# Altium schematic symbol library Penguin.SchLib: 36 symbols
Pins are listed as number, name and electrical type; pins without a type are passive.

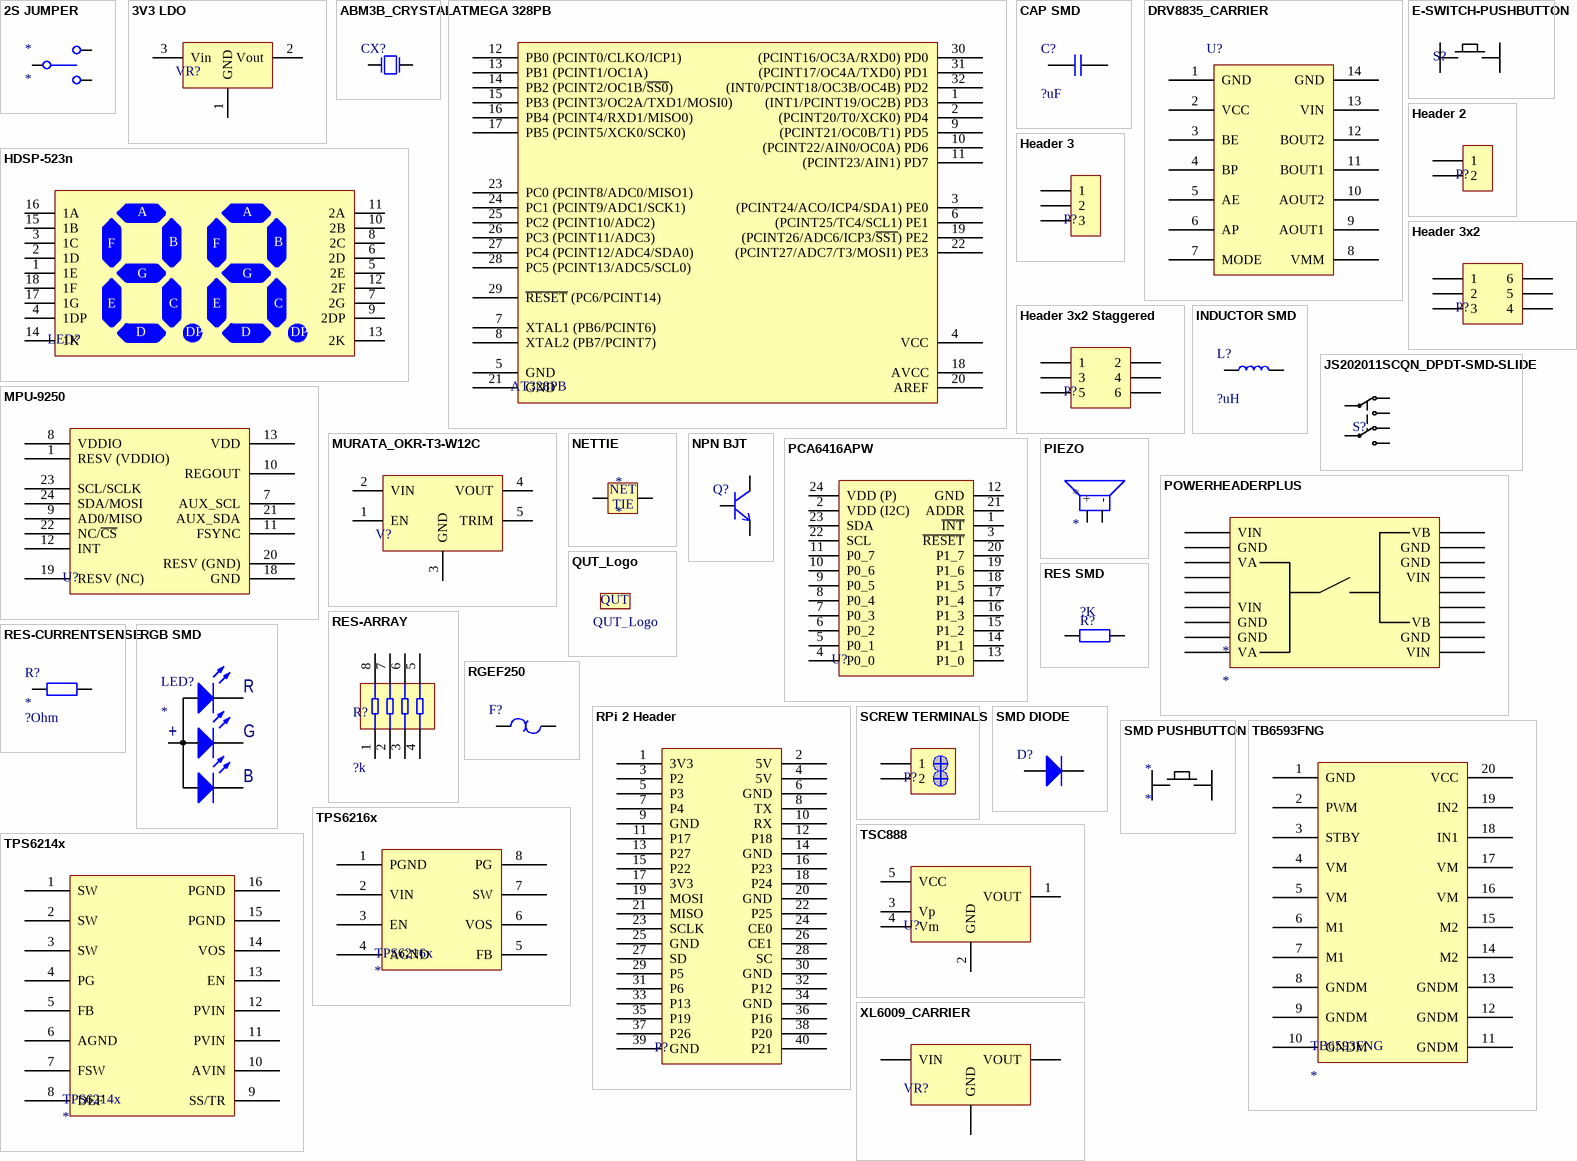
[diagram p0: symbols 2S JUMPER to XL6009_CARRIER]

## 2S JUMPER
designator *
footprint 2S JUMPER (2 State Jumper, 0.1" spacing)
pins: 0, 1, 2

## 3V3 LDO
designator VR?  (value not drawn)
3.3 V Low Dropout Regulator; Part Number: *
footprint SOT95P279X129-3N (SOT23, 3-Leads, Body 2.90x2.79mm, Pitch 0.95mm, IPC Medium Density)
footprint SOT230P700X180-4N (SOT223, 4-Leads, Body 6.50x7.00mm (avg), Pitch 2.30mm, IPC Medium Density)
pins: 1 GND, 2 Vout, 3 Vin

## ABM3B_CRYSTAL
designator CX?, comment ABM3B  (value not drawn)
Surface Mount Crystal Oscillator; Value: ?MHz
footprint ABM3B_CRYSTAL
pins: 1 0, 2 hidden to GND, 3, 4 hidden to GND

## ATMEGA 328PB
designator AT328PB  (value not drawn)
32 pin Microcontroller
footprint TQFP80P900X900X120-32N (TQFP, 32-Leads, Body 7.00x7.00mm, Pitch 0.80mm, IPC Medium Density)
pins: 1 (INT1/PCINT19/OC2B) PD3, 2 (PCINT20/T0/XCK0) PD4, 3 (PCINT24/ACO/ICP4/SDA1) PE0, 4 VCC, 5 GND, 6 (PCINT25/TC4/SCL1) PE1, 7 XTAL1 (PB6/PCINT6), 8 XTAL2 (PB7/PCINT7), 9 (PCINT21/OC0B/T1) PD5, 10 (PCINT22/AIN0/OC0A) PD6, 11 (PCINT23/AIN1) PD7, 12 PB0 (PCINT0/CLKO/ICP1), 13 PB1 (PCINT1/OC1A), 14 PB2 (PCINT2/OC1B/~{SS0}), 15 PB3 (PCINT3/OC2A/TXD1/MOSI0), 16 PB4 (PCINT4/RXD1/MISO0), 17 PB5 (PCINT5/XCK0/SCK0), 18 AVCC, 19 (PCINT26/ADC6/ICP3/~{SS1}) PE2, 20 AREF, 21 GND, 22 (PCINT27/ADC7/T3/MOSI1) PE3, 23 PC0 (PCINT8/ADC0/MISO1), 24 PC1 (PCINT9/ADC1/SCK1), 25 PC2 (PCINT10/ADC2), 26 PC3 (PCINT11/ADC3), 27 PC4 (PCINT12/ADC4/SDA0), 28 PC5 (PCINT13/ADC5/SCL0), 29 ~{RESET} (PC6/PCINT14), 30 (PCINT16/OC3A/RXD0) PD0, 31 (PCINT17/OC4A/TXD0) PD1, 32 (INT0/PCINT18/OC3B/OC4B) PD2

## CAP SMD
designator C?  value ?uF  (hidden comment: *)
Surface mount capacitor
footprint CAPC2012X07N (Chip Capacitor, 2-Leads, Body 2.00x1.25mm, IPC Medium Density)
pins: 1 A, 2 K

## DRV8835_CARRIER
designator U?  (value not drawn)
DRV8835 Motor Controller
footprint DRV8835_CARRIER
pins: 1 GND, 2 VCC, 3 BE, 4 BP, 5 AE, 6 AP, 7 MODE, 8 VMM, 9 AOUT1, 10 AOUT2, 11 BOUT1, 12 BOUT2, 13 VIN, 14 GND

## E-SWITCH-PUSHBUTTON
designator S?, comment SPST PUSHBUTTON  (value not drawn)
TL 3342 surface mount pushbutton
footprint E-SWITCH-TL3342
pins: 1 A, 2 A', 3 B', 4 B

## HDSP-523n
designator LED?, comment 7 SEGMENT LED  (value not drawn)
Double digit 7 segment LED-through hole
footprint HDSP-523n
pins: 1 1E, 2 1D, 3 1C, 4 1DP, 5 2E, 6 2D, 7 2G, 8 2C, 9 2DP, 10 2B, 11 2A, 12 2F, 13 2K, 14 1K, 15 1B, 16 1A, 17 1G, 18 1F
text: A; F; B; G; E; C; D; DP

## Header 2
designator P?
2 pin header
footprint Header 2
footprint SCREWTERMS
pins: 1, 2

## Header 3
designator P?
3 pin header
footprint Header 3
pins: 1, 2, 3

## Header 3x2
designator P?
3 by 2 pin header
footprint Header 3x2 Standard (Follows Standard pin convention)
pins: 1, 2, 3, 4, 5, 6

## Header 3x2 Staggered
designator P?
3 by 2 header, staggered pin arrangement
footprint Header 3x2 nonstandard (nonstandard, staggered pins)
pins: 1, 2, 3, 4, 5, 6

## INDUCTOR SMD
designator L?  value ?uH  (hidden comment: *)
Surface Mount Inductor - varying sizes
footprint CM322522 (BOURNS SMD INDUCTOR)
pins: 1 Anode, 2 Cathode

## JS202011SCQN_DPDT-SMD-SLIDE
designator S?, comment DPDT SLIDE  (value not drawn)
DPDT Slide switch
footprint JS202011SCQN_DPDT-SMD-SLIDE
pins: 1, 2, 3, 4, 5, 6

## MPU-9250
designator U?  (value not drawn)
6 axis IMU
footprint QFN40P300X300X105_HS-25N (QFN, 24-Leads, Body 3.00x3.00mm, Pitch 0.40mm, Thermal Pad 1.70x1.54mm, IPC Medium Density)
pins: 1 RESV (VDDIO), 2 NC hidden, 3 NC hidden, 4 NC hidden, 5 NC hidden, 6 NC hidden, 7 AUX_SCL, 8 VDDIO, 9 AD0/MISO, 10 REGOUT, 11 FSYNC, 12 INT, 13 VDD, 14 NC hidden, 15 NC hidden, 16 NC hidden, 17 NC hidden, 18 GND, 19 RESV (NC), 20 RESV (GND), 21 AUX_SDA, 22 NC/~{CS}, 23 SCL/SCLK, 24 SDA/MOSI

## MURATA_OKR-T3-W12C
designator V?  (value not drawn)
5V 3A switching voltage regulator
footprint MURATA_OKR-Tn
pins: 1 EN, 2 VIN, 3 GND, 4 VOUT, 5 TRIM

## NETTIE
designator *
footprint NETTIE-SMD-5mil
pins: 1, 2
text: NET; TIE

## NPN BJT
designator Q?  (value not drawn)
footprint SOT95P237X111-3N (ON Semi NPN BJT - SOT23, 3-Leads, Body 2.92x2.37mm, Pitch 0.95mm, IPC Medium Density)
pins: 1, 2, 3

## PCA6416APW
designator U?, comment PCA6416A  (value not drawn)
Low-voltage translating 16-bit I2C I/O port expander
footprint TSOP65P640X110-24N (TSOP, 24-Leads, Body 7.80x4.40mm, Pitch 0.65mm, IPC Medium Density)
pins: 1 ~{INT}, 2 VDD (I2C), 3 ~{RESET}, 4 P0_0, 5 P0_1, 6 P0_2, 7 P0_3, 8 P0_4, 9 P0_5, 10 P0_6, 11 P0_7, 12 GND, 13 P1_0, 14 P1_1, 15 P1_2, 16 P1_3, 17 P1_4, 18 P1_5, 19 P1_6, 20 P1_7, 21 ADDR, 22 SCL, 23 SDA, 24 VDD (P)

## PIEZO
designator *
footprint PIEZO
pins: 1 +, 2 -

## POWERHEADERPLUS
designator *
footprint POWERHEADERPLUS
pins: 0 VIN, 1 GND, 2 VA, 3 UN1, 4 UN2, 5 VIN, 6 GND, 7 GND, 8 VA, 9 VIN, 10 GND, 11 VB, 12, 13 UN4, 14 VIN, 15 GND, 16 GND, 17 VB

## QUT_Logo
designator LG?
footprint QUT_Logo
text: QUT

## RES SMD
designator R?  value ?K  (hidden comment: RES SMD)
0805 surface mount resistor
footprint RESC2012X07N (Chip Resistor, 2-Leads, Body 2.00x1.25mm, IPC Medium Density)
footprint RESC2012X05N (Chip Resistor, 2-Leads, Body 2.00x1.20mm, IPC Medium Density)
footprint RESC3216X06M (Chip Resistor, 2-Leads, Body 3.20x1.60mm, IPC Low Density)
pins: 1, 2

## RES-ARRAY
designator R?, comment value ?k  (hidden comment: ARRAY)
Surface mount resistor array
footprint CAC-80P319X150-8N (Chip Array, ConvexE, 8-Leads, Pitch 0.80mm,  Body 3.20x1.50mm,  IPC Medium Density)
footprint CAC-80P319X155-8M (Chip Array, ConvexS, 8-Leads, Pitch 0.80mm,  Body 3.20x1.55mm,  IPC Low Density)
pins: 1, 2, 3, 4, 5, 6, 7, 8

## RES-CURRENTSENSE
designator R?  value ?Ohm
1206 surface mount resistor
pins: 1, 2

## RGB SMD
designator LED?
ASMB-MTB1-0A3A2
footprint RGB SMD (WL-SFTW)
pins: 1 K-R, 2 K-G, 3 K-B, 4 A
text: R; +; G; B

## RGEF250
designator F?, comment RUSBF250  (value not drawn)
PPTC Thermal Fuse; Hold Current: 2.5A; Trip Current: 5A; VRating: 16V
footprint PPTC-R14
pins: 1, 2

## RPi 2 Header
designator P?  (value not drawn)
GPIO connector for Raspberry Pi Microcomputer
footprint RPI 2 Header
pins: 1 3V3, 2 5V, 3 P2, 4 5V, 5 P3, 6 GND, 7 P4, 8 TX, 9 GND, 10 RX, 11 P17, 12 P18, 13 P27, 14 GND, 15 P22, 16 P23, 17 3V3, 18 P24, 19 MOSI, 20 GND, 21 MISO, 22 P25, 23 SCLK, 24 CE0, 25 GND, 26 CE1, 27 SD, 28 SC, 29 P5, 30 GND, 31 P6, 32 P12, 33 P13, 34 GND, 35 P19, 36 P16, 37 P26, 38 P20, 39 GND, 40 P21

## SCREW TERMINALS
designator P?  (value not drawn)
footprint SCREWTERMS
pins: 1, 2

## SMD DIODE
designator D?  (value not drawn)
Surface mount Diode
footprint SODFL470X110-2N (SODFL, 2-Leads, Body 2.50x4.70mm, IPC Medium Density)
pins: 1, 2

## SMD PUSHBUTTON
designator *
footprint SMD PUSHBUTTON
pins: 1 A, 2 A', 3 B', 4 B

## TB6593FNG
designator TB6593FNG
pins: 1 GND, 2 PWM, 3 STBY, 4 VM, 5 VM, 6 M1, 7 M1, 8 GNDM, 9 GNDM, 10 GNDM, 11 GNDM, 12 GNDM, 13 GNDM, 14 M2, 15 M2, 16 VM, 17 VM, 18 IN1, 19 IN2, 20 VCC

## TPS6214x
designator TPS6214x
pins: 1 SW, 2 SW, 3 SW, 4 PG, 5 FB, 6 AGND, 7 FSW, 8 DEF, 9 SS/TR, 10 AVIN, 11 PVIN, 12 PVIN, 13 EN, 14 VOS, 15 PGND, 16 PGND

## TPS6216x
designator TPS6216x
pins: 1 PGND, 2 VIN, 3 EN, 4 AGND, 5 FB, 6 VOS, 7 SW, 8 PG

## TSC888
designator U?  (value not drawn)
Curent Sense Amplifier
footprint SOT95P280X145-5N (SOT23, 5-Leads, Body 2.90x2.80mm, Pitch 0.95mm, IPC Medium Density)
pins: 1 VOUT, 2 GND, 3 Vp, 4 Vm, 5 VCC

## XL6009_CARRIER
designator VR?, comment SWITCHING VREG  (value not drawn)
XL6009 or LM2596 typical footprint
pins: 1 VIN, 2 GND, 3 VOUT, 4 GND hidden